# Altium footprint library 1040310811.PcbLib: 1 footprints
Each footprint in its own frame and in the unit in brackets; x right, y up, seen from the top. Pads: shape width x height; smd on the part's side, far side on the other; paste and mask are expansions set on the pad; w line width, h text height; cw(c..) or ccw(c..) is an arc to the next point about the centre after c.
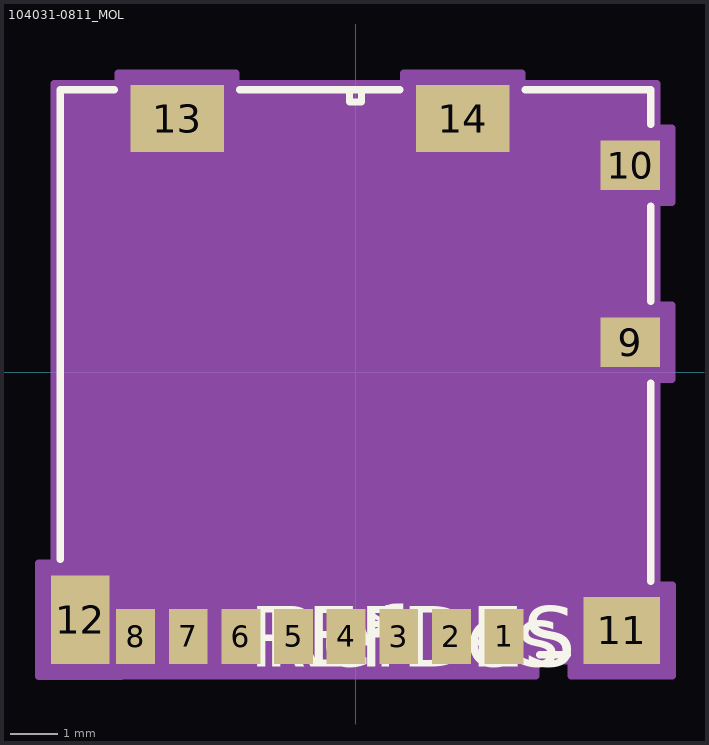
[diagram p0: the footprint, top view; thin cyan lines are the x and y axes]

## 104031-0811_MOL [mil]
pads (14):
  rect 32x45 smd paste+0 mask+0: 1(122.24,-217.38) 2(78.94,-217.38) 3(35.63,-217.38) 4(-7.68,-217.38) 5(-50.98,-217.38) 6(-94.29,-217.38) 7(-137.6,-217.38) 8(-180.91,-217.38)
  rect 49x41 smd paste-24.5 mask-24.5: 9(225.98,24.74) 10(225.98,170.41)
  rect 63x55 smd paste-31.5 mask-31.5: 11(219.09,-212.46)
  rect 48x73 smd paste-36.5 mask-36.5: 12(-226.57,-203.6)
  rect 77x55 smd paste+0 mask+0: 13(-146.85,208.8) 14(88.19,208.8)
Top Overlay:
  lines w6: -243,-154 -243,232.5 -198.45,232.5 ; -95.25,232.5 36.59,232.5 ; 139.79,232.5 243,232.5 243,204.01 ; 151.34,-232.5 174.49,-232.5 ; 243,-171.86 243,-8.86 ; 243,58.34 243,136.81 ; -5,222.5 5,222.5 5,232.5 -5,232.5 -5,222.5
  text "*" at 9.74,-242.38 h50
  text "RefDes" at -75,-242.38 h50
  text "REFDES" at -87.5,-242.38 h50
Mechanical 13:
  lines w1: 0,227.5 0,227.5 ; 0,227.5 0,227.5 ; 0,227.5 0,227.5 ; 0,227.5 0,227.5 ; -238,-227.5 238,-227.5 238,227.5 -238,227.5 -238,-227.5
  text "*" at 9.74,-242.38 h50
  text "RefDes2" at -87.5,-242.38 h50
Mechanical 15:
  region: -260.57,-250.1 -192.57,-250.1 -192.57,-249.88 148.24,-249.88 148.24,-237.5 177.59,-237.5 177.59,-249.96 260.59,-249.96 260.59,-174.96 248,-174.96 248,-5.76 260.48,-5.76 260.48,55.24 248,55.24 248,139.91 260.48,139.91 260.48,200.91 248,200.91 248,237.5 136.69,237.5 136.69,246.3 39.69,246.3 39.69,237.5 -98.35,237.5 -98.35,246.3 -195.35,246.3 -195.35,237.5 -248,237.5 -248,-157.1 -260.57,-157.1
  lines w6: -260.57,-250.1 -192.57,-250.1 -192.57,-249.88 148.24,-249.88 148.24,-237.5 177.59,-237.5 177.59,-249.96 260.59,-249.96 260.59,-174.96 248,-174.96 248,-5.76 260.48,-5.76 260.48,55.24 248,55.24 248,139.91 260.48,139.91 260.48,200.91 248,200.91 248,237.5 136.69,237.5 136.69,246.3 39.69,246.3 39.69,237.5 -98.35,237.5 -98.35,246.3 -195.35,246.3 -195.35,237.5 -248,237.5 -248,-157.1 -260.57,-157.1 -260.57,-250.1